# Altium schematic symbol library SamacSys.SchLib: 12 symbols
Pins are listed as number, name and electrical type; pins without a type are passive.

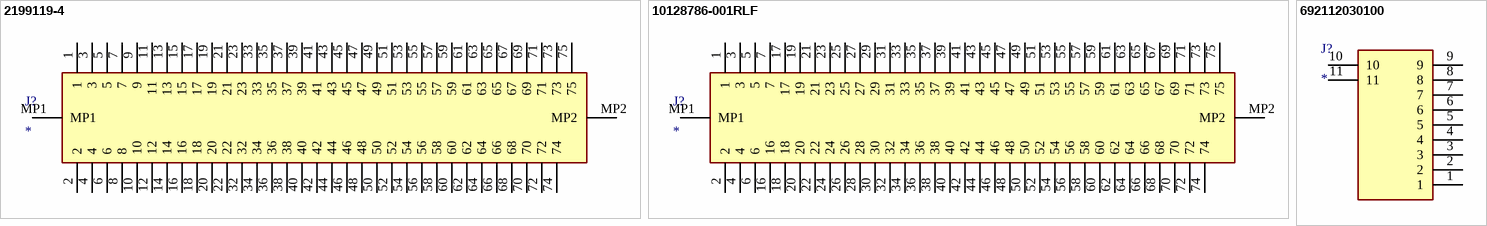
[diagram p0: symbols 2199119-4 to 692112030100]

## 2199119-4
designator J?
Connector; Manufacturer_Name: TE Connectivity; Manufacturer_Part_Number: 2199119-4; Datasheet Link: https://componentsearchengine.com/Datasheets/5/2199119-4.pdf; Height: 3.2mm; Arrow Part Number: 2199119-4; Arrow Price/Stock: https://www.arrow.com/en/products/2199119-4/te-connectivity; Mouser Part Number: 571-2199119-4; Mouser Price/Stock: https://www.mouser.co.uk/ProductDetail/TE-Connectivity/2199119-4?qs=EQCnRgr4b6HleVSqFeBacg%3D%3D
footprint 21991194
pins: 1, 2, 3, 4, 5, 6, 7, 8, 9, 10, 11, 12, 13, 14, 15, 16, 17, 18, 19, 20, 21, 22, 23, 32, 33, 34, 35, 36, 37, 38, 39, 40, 41, 42, 43, 44, 45, 46, 47, 48, 49, 50, 51, 52, 53, 54, 55, 56, 57, 58, 59, 60, 61, 62, 63, 64, 65, 66, 67, 68, 69, 70, 71, 72, 73, 74, 75, MP1, MP2

## 10128786-001RLF
designator J?
Connector; Manufacturer_Name: Amphenol; Manufacturer_Part_Number: 10128786-001RLF; Datasheet Link: https://cdn.amphenol-icc.com/media/wysiwyg/files/drawing/10128786.pdf?__cf_chl_jschl_tk__=4a0dcf35c035c58f6776c150bdcef49020d1914a-1590427733-0-AVY7NbN4d6hfDdcJx803QG2fpiqyn32V27KLfe1_XlS5xOkr0Kvjt7TAW3Xx476QXnFee8m3LXfuzZImP1Pz2-So5wTpLII-ObXtUD1fsd8oSAv; Height: 3.2mm; Arrow Part Number: 10128786-001RLF; Arrow Price/Stock: https://www.arrow.com/en/products/10128786-001rlf/amphenol-fci; Mouser Part Number: 649-10128786-001RLF; Mouser Price/Stock: https://www.mouser.co.uk/ProductDetail/Amphenol-FCI/10128786-001RLF?qs=E2PpAYvlWVufHVfxre965g%3D%3D
footprint 10128786001RLF
pins: 1, 2, 3, 4, 5, 6, 7, 16, 17, 18, 19, 20, 21, 22, 23, 24, 25, 26, 27, 28, 29, 30, 31, 32, 33, 34, 35, 36, 37, 38, 39, 40, 41, 42, 43, 44, 45, 46, 47, 48, 49, 50, 51, 52, 53, 54, 55, 56, 57, 58, 59, 60, 61, 62, 63, 64, 65, 66, 67, 68, 69, 70, 71, 72, 73, 74, 75, MP1, MP2

## 692112030100
designator J?
Connector; Manufacturer_Name: Wurth Elektronik; Manufacturer_Part_Number: 692112030100; Datasheet Link: http://katalog.we-online.de/em/datasheet/692112030100.pdf; Height: 1mm; Arrow Part Number: 692112030100; Mouser Part Number: 710-692112030100; Mouser Price/Stock: https://www.mouser.co.uk/ProductDetail/Wurth-Elektronik/692112030100?qs=e5m3IbTHPW8iHQO2HaiyOA%3D%3D
footprint 692112030100
pins: 1, 2, 3, 4, 5, 6, 7, 8, 9, 10, 11

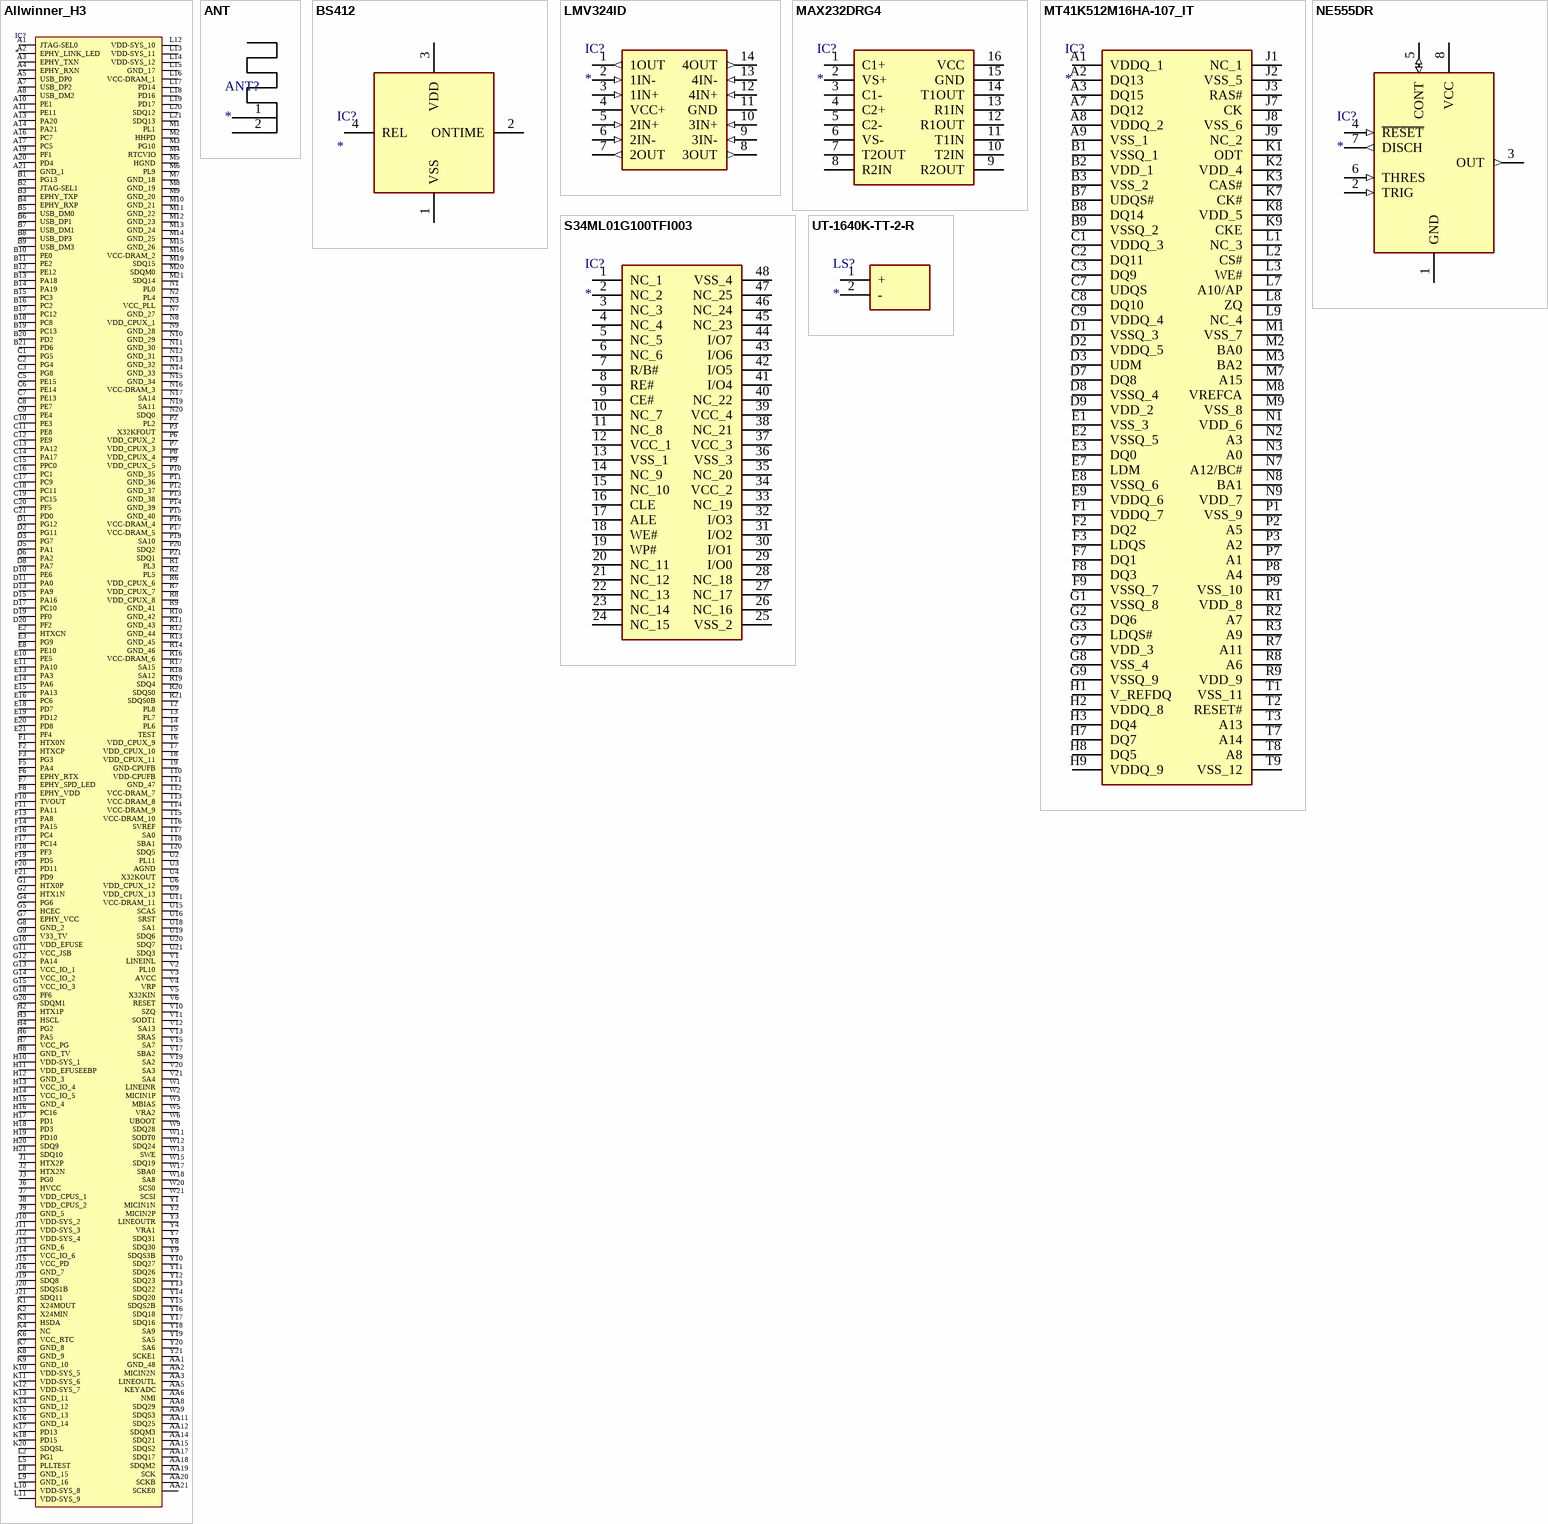
[diagram p1: symbols Allwinner_H3 to UT-1640K-TT-2-R]

## Allwinner_H3
designator IC?
Integrated Circuit; Manufacturer_Name: Allwinner Technology; Manufacturer_Part_Number: Allwinner H3; Datasheet Link: http://linux-sunxi.org/images/4/4b/Allwinner_H3_Datasheet_V1.2.pdf; Height: 1.18mm; Arrow Part Number: Allwinner H3
footprint BGA347C65P21X21_1400X1400X118
pins: A1 JTAG-SEL0, A2 EPHY_LINK_LED, A3 EPHY_TXN, A4 EPHY_RXN, A5 USB_DP0, A7 USB_DP2, A8 USB_DM2, A10 PE1, A11 PE11, A13 PA20, A14 PA21, A16 PC7, A17 PC5, A19 PF1, A20 PD4, A21 GND_1, AA1 GND_48, AA2 MICIN2N, AA3 LINEOUTL, AA5 KEYADC, AA6 NMI, AA8 SDQ29, AA9 SDQS3, AA11 SDQ25, AA12 SDQM3, AA14 SDQ21, AA15 SDQS2, AA17 SDQ17, AA18 SDQM2, AA19 SCK, AA20 SCKB, AA21 SCKE0, B1 PG13, B2 JTAG-SEL1, B3 EPHY_TXP, B4 EPHY_RXP, B5 USB_DM0, B6 USB_DP1, B7 USB_DM1, B8 USB_DP3, B9 USB_DM3, B10 PE0, B11 PE2, B12 PE12, B13 PA18, B14 PA19, B15 PC3, B16 PC2, B17 PC12, B18 PC8, B19 PC13, B20 PD2, B21 PD6, C1 PG5, C2 PG4, C3 PG8, C5 PE15, C6 PE14, C7 PE13, C8 PE7, C9 PE4, C10 PE3, C11 PE8, C12 PE9, C13 PA12, C14 PA17, C15 PPC0, C16 PC1, C17 PC9, C18 PC11, C19 PC15, C20 PF5, C21 PD0, D1 PG12, D2 PG11, D3 PG7, D5 PA1, D6 PA2, D8 PA7, D10 PE6, D11 PA0, D13 PA9, D15 PA16, D17 PC10, D19 PF0, D20 PF2, E2 HTXCN, E3 PG9, E8 PE10, E10 PE5, E11 PA10, E13 PA3, E14 PA6, E15 PA13, E16 PC6, E18 PD7, E19 PD12, E20 PD8, E21 PF4, F1 HTX0N, F2 HTXCP, F3 PG3, F5 PA4, F6 EPHY_RTX, F7 EPHY_SPD_LED, F8 EPHY_VDD, F10 TVOUT, F11 PA11, F13 PA8, F14 PA15, F16 PC4, F17 PC14, F18 PF3, F19 PD5, F20 PD11, F21 PD9, G1 HTX0P, G2 HTX1N, G4 PG6, G5 HCEC, G7 EPHY_VCC, G8 GND_2, G9 V33_TV, G10 VDD_EFUSE, G11 VCC_JSB, G12 PA14, G13 VCC_IO_1, G14 VCC_IO_2, G15 VCC_IO_3, G18 PF6, G20 SDQM1, H2 HTX1P, H3 HSCL, H4 PG2, H6 PA5, H7 VCC_PG, H8 GND_TV, H10 VDD-SYS_1, H11 VDD_EFUSEEBP, H12 GND_3, H13 VCC_IO_4, H14 VCC_IO_5, H15 GND_4, H16 PC16, H17 PD1, H18 PD3, H19 PD10, H20 SDQ9, H21 SDQ10, J1 HTX2P, J2 HTX2N, J3 PG0, J6 HVCC, J7 VDD_CPUS_1, J8 VDD_CPUS_2, J9 GND_5, J10 VDD-SYS_2, J11 VDD-SYS_3, J12 VDD-SYS_4, J13 GND_6, J14 VCC_IO_6, J15 VCC_PD, J16 GND_7, J19 SDQ8, J20 SDQS1B, J21 SDQ11, K1 X24MOUT, K2 X24MIN, K3 HSDA, K4 NC, K6 VCC_RTC, K7 GND_8, K8 GND_9, K9 GND_10, K10 VDD-SYS_5, K11 VDD-SYS_6, K12 VDD-SYS_7, K13 GND_11, K14 GND_12, K15 GND_13, K16 GND_14, K17 PD13, K18 PD15, K20 SDQSL, L2 PG1, L5 PLLTEST, L8 GND_15, L9 GND_16, L10 VDD-SYS_8, L11 VDD-SYS_9, L12 VDD-SYS_10, L13 VDD-SYS_11, L14 VDD-SYS_12, L15 GND_17, L16 VCC-DRAM_1, L17 PD14, L18 PD16, L19 PD17, L20 SDQ12, L21 SDQ13, M1 PL1, M2 HHPD, M3 PG10, M4 RTCVIO, M5 HGND, M6 PL9, M7 GND_18, M8 GND_19, M9 GND_20, M10 GND_21, M11 GND_22, M12 GND_23, M13 GND_24, M14 GND_25, M15 GND_26, M16 VCC-DRAM_2, M19 SDQ15, M20 SDQM0, M21 SDQ14, N1 PL0, N2 PL4, N3 VCC_PLL, N7 GND_27, N8 VDD_CPUX_1, N9 GND_28, N10 GND_29, N11 GND_30, N12 GND_31, N13 GND_32, N14 GND_33, N15 GND_34, N16 VCC-DRAM_3, N17 SA14, N19 SA11, N20 SDQ0, P2 PL2, P3 X32KFOUT, P6 VDD_CPUX_2, P7 VDD_CPUX_3, P8 VDD_CPUX_4, P9 VDD_CPUX_5, P10 GND_35, P11 GND_36, P12 GND_37, P13 GND_38, P14 GND_39, P15 GND_40, P16 VCC-DRAM_4, P17 VCC-DRAM_5, P19 SA10, P20 SDQ2, P21 SDQ1, R1 PL3, R2 PL5, R6 VDD_CPUX_6, R7 VDD_CPUX_7, R8 VDD_CPUX_8, R9 GND_41, R10 GND_42, R11 GND_43, R12 GND_44, R13 GND_45, R14 GND_46, R16 VCC-DRAM_6, R17 SA15, R18 SA12, R19 SDQ4, R20 SDQS0, R21 SDQS0B, T2 PL8, T3 PL7, T4 PL6, T5 TEST, T6 VDD_CPUX_9, T7 VDD_CPUX_10, T8 VDD_CPUX_11, T9 GND-CPUFB, T10 VDD-CPUFB, T11 GND_47, T12 VCC-DRAM_7, T13 VCC-DRAM_8, T14 VCC-DRAM_9, T15 VCC-DRAM_10, T16 SVREF, T17 SA0, T18 SBA1, T20 SDQ5, U2 PL11, U3 AGND, U4 X32KOUT, U6 VDD_CPUX_12, U9 VDD_CPUX_13, U11 VCC-DRAM_11, U15 SCAS, U16 SRST, U18 SA1, U19 SDQ6, U20 SDQ7, U21 SDQ3, V1 LINEINL, V2 PL10, V3 AVCC, V4 VRP, V5 X32KIN, V6 RESET, V10 SZQ, V11 SODT1, V12 SA13, V13 SRAS, V15 SA7, V17 SBA2, V19 SA2, V20 SA3, V21 SA4, W1 LINEINR, W2 MICIN1P, W3 MBIAS, W5 VRA2, W6 UBOOT, W9 SDQ28, W11 SODT0, W12 SDQ24, W13 SWE, W15 SDQ19, W17 SBA0, W18 SA8, W20 SCS0, W21 SCSI, Y1 MICIN1N, Y2 MICIN2P, Y3 LINEOUTR, Y4 VRA1, Y7 SDQ31, Y8 SDQ30, Y9 SDQS3B, Y10 SDQ27, Y11 SDQ26, Y12 SDQ23, Y13 SDQ22, Y14 SDQ20, Y15 SDQS2B, Y16 SDQ18, Y17 SDQ16, Y18 SA9, Y19 SA5, Y20 SA6, Y21 SCKE1

## ANT
designator ANT?
pins: 1, 2

## BS412
designator IC?
Integrated Circuit; Manufacturer_Name: Senba Sensing Tech; Manufacturer_Part_Number: BS412; Datasheet Link: https://datasheet.lcsc.com/szlcsc/1910111742_Senba-Sensing-Tech-BS412_C410378.pdf; Height: 4.2mm
footprint BS412
pins: 1 VSS, 2 ONTIME, 3 VDD, 4 REL

## LMV324ID
designator IC?
Integrated Circuit; Manufacturer_Name: Texas Instruments; Manufacturer_Part_Number: LMV324ID; Datasheet Link: http://www.ti.com/lit/ds/symlink/lmv324.pdf; Height: 1.75mm; Arrow Part Number: LMV324ID; Arrow Price/Stock: https://www.arrow.com/en/products/lmv324id/texas-instruments; Mouser Part Number: 595-LMV324ID; Mouser Price/Stock: https://www.mouser.co.uk/ProductDetail/Texas-Instruments/LMV324ID?qs=YEaxc5757jNFOM2MdGyYdw%3D%3D
footprint SOIC127P600X175-14N
pins: 1 1OUT (out), 2 1IN- (in), 3 1IN+ (in), 4 VCC+ (power), 5 2IN+ (in), 6 2IN- (in), 7 2OUT (out), 8 3OUT (out), 9 3IN- (in), 10 3IN+ (in), 11 GND (power), 12 4IN+ (in), 13 4IN- (in), 14 4OUT (out)

## MAX232DRG4
designator IC?
Integrated Circuit; Manufacturer_Name: Texas Instruments; Manufacturer_Part_Number: MAX232DRG4; Datasheet Link: http://www.ti.com/general/docs/lit/getliterature.tsp?genericPartNumber=MAX232&fileType=pdf&HQS=ti-null-null-sf-df-pf-sep-wwe&DCM=yes; Height: 1.75mm; Arrow Part Number: MAX232DRG4; Arrow Price/Stock: https://www.arrow.com/en/products/max232drg4/texas-instruments; Mouser Part Number: 595-MAX232DRG4; Mouser Price/Stock: https://www.mouser.co.uk/ProductDetail/Texas-Instruments/MAX232DRG4?qs=tP77tliwutBAhcsawRpYug%3D%3D
footprint SOIC127P600X175-16N
pins: 1 C1+, 2 VS+, 3 C1-, 4 C2+, 5 C2-, 6 VS-, 7 T2OUT, 8 R2IN, 9 R2OUT, 10 T2IN, 11 T1IN, 12 R1OUT, 13 R1IN, 14 T1OUT, 15 GND, 16 VCC

## MT41K512M16HA-107_IT
designator IC?
Integrated Circuit; Manufacturer_Name: Alliance Memory; Manufacturer_Part_Number: MT41K512M16HA-107 IT; Datasheet Link: https://www.mouser.co.uk/datasheet/2/12/Micron_8Gb_DDR3_SDRAM_PartNo.MT41K512M16HA-107_125-1620705.pdf; Height: 1.2mm; Arrow Part Number: MT41K512M16HA-107 IT; Mouser Part Number: 913-41K512M16HA107IT; Mouser Price/Stock: https://www.mouser.co.uk/ProductDetail/Alliance-Memory/MT41K512M16HA-107-IT?qs=l7cgNqFNU1iP26mO7cGg%252BQ%3D%3D
footprint BGA96C80P9X16_900X1400X120
pins: A1 VDDQ_1, A2 DQ13, A3 DQ15, A7 DQ12, A8 VDDQ_2, A9 VSS_1, B1 VSSQ_1, B2 VDD_1, B3 VSS_2, B7 UDQS#, B8 DQ14, B9 VSSQ_2, C1 VDDQ_3, C2 DQ11, C3 DQ9, C7 UDQS, C8 DQ10, C9 VDDQ_4, D1 VSSQ_3, D2 VDDQ_5, D3 UDM, D7 DQ8, D8 VSSQ_4, D9 VDD_2, E1 VSS_3, E2 VSSQ_5, E3 DQ0, E7 LDM, E8 VSSQ_6, E9 VDDQ_6, F1 VDDQ_7, F2 DQ2, F3 LDQS, F7 DQ1, F8 DQ3, F9 VSSQ_7, G1 VSSQ_8, G2 DQ6, G3 LDQS#, G7 VDD_3, G8 VSS_4, G9 VSSQ_9, H1 V_REFDQ, H2 VDDQ_8, H3 DQ4, H7 DQ7, H8 DQ5, H9 VDDQ_9, J1 NC_1, J2 VSS_5, J3 RAS#, J7 CK, J8 VSS_6, J9 NC_2, K1 ODT, K2 VDD_4, K3 CAS#, K7 CK#, K8 VDD_5, K9 CKE, L1 NC_3, L2 CS#, L3 WE#, L7 A10/AP, L8 ZQ, L9 NC_4, M1 VSS_7, M2 BA0, M3 BA2, M7 A15, M8 VREFCA, M9 VSS_8, N1 VDD_6, N2 A3, N3 A0, N7 A12/BC#, N8 BA1, N9 VDD_7, P1 VSS_9, P2 A5, P3 A2, P7 A1, P8 A4, P9 VSS_10, R1 VDD_8, R2 A7, R3 A9, R7 A11, R8 A6, R9 VDD_9, T1 VSS_11, T2 RESET#, T3 A13, T7 A14, T8 A8, T9 VSS_12

## NE555DR
designator IC?
Integrated Circuit; Manufacturer_Name: Texas Instruments; Manufacturer_Part_Number: NE555DR; Datasheet Link: http://www.ti.com/lit/ds/symlink/ne555.pdf; Height: 1.75mm; Mouser Part Number: 595-NE555DR; Mouser Price/Stock: https://www.mouser.com/Search/Refine.aspx?Keyword=595-NE555DR; RS Part Number: 1218414; RS Price/Stock: http://uk.rs-online.com/web/p/products/1218414
footprint SOIC127P600X175-8N
pins: 1 GND (power), 2 TRIG (in), 3 OUT (out), 4 ~{RESET} (in), 5 CONT (io), 6 THRES (in), 7 DISCH (out), 8 VCC (power)

## S34ML01G100TFI003
designator IC?
Integrated Circuit; Manufacturer_Name: Cypress Semiconductor; Manufacturer_Part_Number: S34ML01G100TFI003; Datasheet Link: http://www.mouser.com/datasheet/2/100/002-00676_S34ML01G1_S34ML02G1_S34ML04G1_1_GB_2_GB_-1301812.pdf; Height: 1.2mm; Arrow Part Number: S34ML01G100TFI003; Arrow Price/Stock: https://www.arrow.com/en/products/s34ml01g100tfi003/cypress-semiconductor; Mouser Part Number: 797-34ML01G100TFI003; Mouser Price/Stock: https://www.mouser.com/Search/Refine.aspx?Keyword=797-34ML01G100TFI003
footprint SOP50P2000X120-48N
pins: 1 NC_1, 2 NC_2, 3 NC_3, 4 NC_4, 5 NC_5, 6 NC_6, 7 R/B#, 8 RE#, 9 CE#, 10 NC_7, 11 NC_8, 12 VCC_1, 13 VSS_1, 14 NC_9, 15 NC_10, 16 CLE, 17 ALE, 18 WE#, 19 WP#, 20 NC_11, 21 NC_12, 22 NC_13, 23 NC_14, 24 NC_15, 25 VSS_2, 26 NC_16, 27 NC_17, 28 NC_18, 29 I/O0, 30 I/O1, 31 I/O2, 32 I/O3, 33 NC_19, 34 VCC_2, 35 NC_20, 36 VSS_3, 37 VCC_3, 38 NC_21, 39 VCC_4, 40 NC_22, 41 I/O4, 42 I/O5, 43 I/O6, 44 I/O7, 45 NC_23, 46 NC_24, 47 NC_25, 48 VSS_4

## UT-1640K-TT-2-R
designator LS?
Loudspeaker or Buzzer; Manufacturer_Name: PUI Audio; Manufacturer_Part_Number: UT-1640K-TT-2-R; Datasheet Link: http://www.puiaudio.com/pdf/UT-1640K-TT-2-R.pdf; Height: 12.5mm; Arrow Part Number: UT-1640K-TT-2-R; Mouser Part Number: 665-UT1640KTT2R; Mouser Price/Stock: https://www.mouser.co.uk/ProductDetail/PUI-Audio/UT-1640K-TT-2-R?qs=pFWzdYhrkoe9i1tVja2xXg%3D%3D
footprint UT1640KTT2R
pins: 1 +, 2 -